# EAGLE library part QUAD-2-INPUT-NAND-GATES (library logic)
Quad 2-Input CMOS NAND Gate These quad gates are monolithic complementary MOS (CMOS) integrated circuits constructed with N-and P-channel enhancement mode transistors. They have equal source and sink current capabilities and conform to standard B series output drive. The devices also have buffered outputs which improve transfer characteristics by providing very high gain. All inputs are protected against static discharge with diodes to VDD and VSS. Features Low power TTL compatibility 5V-10V-15V parametric ratings Symmetrical output characteristics Maximum input leakage 1µA at 15V over full temperature range
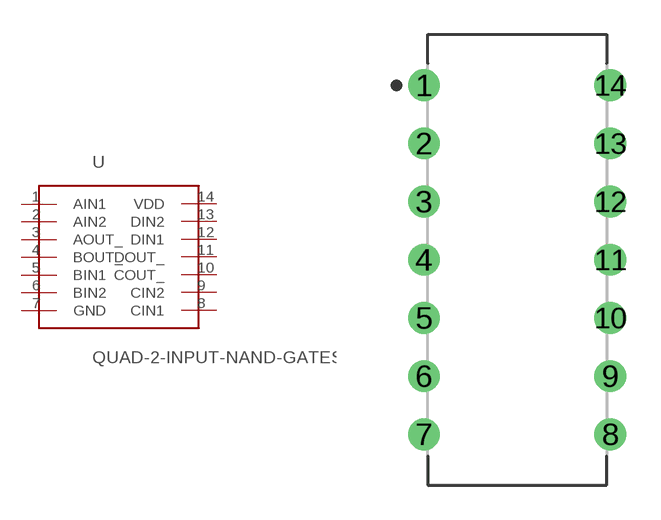
[diagram p0: symbol with the pads of DIP813W53P254L1969H508Q14B; footprint DIP813W53P254L1969H508Q14B]

Designator prefix -

## QUAD-2-INPUT-NAND-GATESTI-PDIPJ  [DIP813W53P254L1969H508Q14B]
1  AIN1  in
2  AIN2  in
3  AOUT_  out
4  BOUT_  out
5  BIN1  in
6  BIN2  in
7  GND  pwr
8  CIN1  in
9  CIN2  in
10  COUT_  out
11  DOUT_  out
12  DIN1  in
13  DIN2  in
14  VDD

## Footprint DIP813W53P254L1969H508Q14B (pad centres in mm)
14-DIP, 2.54 mm (0.10 in) pitch, 8.13 mm (0.32 in) span, 19.69 X 6.65 X 5.08 mm body 14-pin DIP package with 2.54 mm (0.10 in) pitch, 8.13 mm (0.32 in) span with body size 19.69 X 6.65 X 5.08 mm
drill 0.786 pad 1.386: 1 -4.065,7.62; 2 -4.065,5.08; 3 -4.065,2.54; 4 -4.065,0; 5 -4.065,-2.54; 6 -4.065,-5.08; 7 -4.065,-7.62; 8 4.065,-7.62; 9 4.065,-5.08; 10 4.065,-2.54; 11 4.065,0; 12 4.065,2.54; 13 4.065,5.08; 14 4.065,7.62